# Altium footprint library PcbLib.PcbLib: 2 footprints
Each footprint in its own frame and in the unit in brackets; x right, y up, seen from the top. Pads: shape width x height; smd on the part's side, far side on the other; paste and mask are expansions set on the pad; w line width, h text height; cw(c..) or ccw(c..) is an arc to the next point about the centre after c.
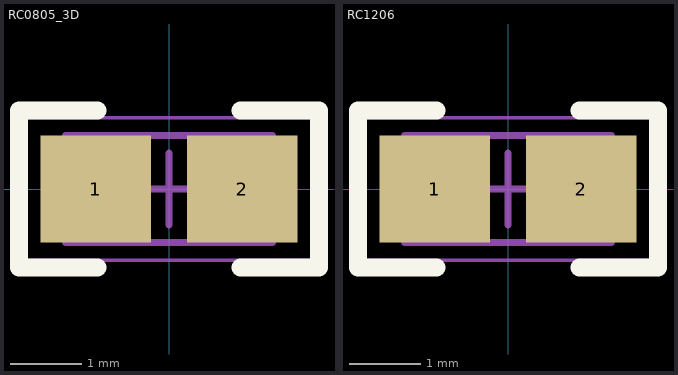
[diagram p0: the footprints below, top view; thin cyan lines are the x and y axes]

## RC0805_3D [mm]
height 0.7
pads (2):
  rect 1.55x1.5 smd: 1(-1.025,0) 2(1.025,0)
Top Overlay:
  lines w0.254: -1,-1.1 -2.1,-1.1 -2.1,1.1 ; 1,-1.1 2.1,-1.1 2.1,1.1 1,1.1 ; -2.1,1.1 -1,1.1 -2.1,1.1
Mechanical 13:
  lines w0.1: -1.45,-0.75 -1.45,0.75 1.45,0.75 1.45,-0.75 -1.45,-0.75
Mechanical 15:
  lines w0.05: -2.05,-1 -2.05,1 2.05,1 2.05,-1 -2.05,-1
  lines w0.1: -0.5,0 0.5,0 ; 0,-0.5 0,0.5
3D body "User Library-R0805.step": height 0.44, standoff -0.03, extent -1,-0.626 1,0.626

## RC1206 [mm]
height 0.7
pads (2):
  rect 1.55x1.5 smd: 1(-1.025,0) 2(1.025,0)
Top Overlay:
  lines w0.254: -1,-1.1 -2.1,-1.1 -2.1,1.1 ; 1,-1.1 2.1,-1.1 2.1,1.1 1,1.1 ; -2.1,1.1 -1,1.1 -2.1,1.1
Mechanical 13:
  lines w0.1: -1.45,-0.75 -1.45,0.75 1.45,0.75 1.45,-0.75 -1.45,-0.75
Mechanical 15:
  lines w0.05: -2.05,-1 -2.05,1 2.05,1 2.05,-1 -2.05,-1
  lines w0.1: -0.5,0 0.5,0 ; 0,-0.5 0,0.5